# Altium schematic symbol library RES 5.1M 1_8W-5%.Schlib: 1 symbol
Pins are listed as number, name and electrical type; pins without a type are passive.

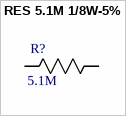
[diagram p0: symbol RES 5.1M 1/8W-5%]

## RES 5.1M 1/8W-5%
designator R?, comment 5.1M
RES SMD 5.1 MOHM 5% 1/8W 0805; Power (Watts): 0.125W; Package: 0805; Value: 5.1M; Tolerance: 5%
footprint 0805
footprint 0603
pins: 1 R1, 2 R2